# EAGLE library part ARDUINO_MICRO (library HankLibraries)
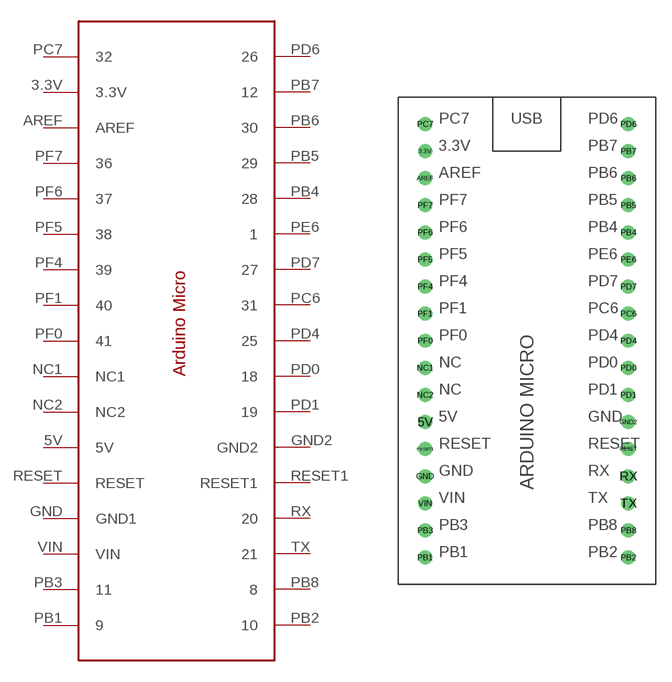
[diagram p4: symbol with the pads of ARDUINOMICRO_FOOTPRINT; footprint ARDUINOMICRO_FOOTPRINT]

Designator prefix -

## ARDUINO_MICRO  [ARDUINOMICRO_FOOTPRINT]
3.3V  3.3V
5V  5V
AREF  AREF
GND  GND1
GND2  GND2
NC1  NC1
NC2  NC2
PB1  9
PB2  10
PB3  11
PB4  28
PB5  29
PB6  30
PB7  12
PB8  8
PC6  31
PC7  32
PD0  18
PD1  19
PD4  25
PD6  26
PD7  27
PE6  1
PF0  41
PF1  40
PF4  39
PF5  38
PF6  37
PF7  36
RESET  RESET
RESET1  RESET1
RX  20
TX  21
VIN  VIN

## Footprint ARDUINOMICRO_FOOTPRINT (pad centres in mm)
drill 0.8: 3.3V -8.89,11.43; 5V -8.89,-13.97; AREF -8.89,8.89; GND -8.89,-19.05; GND2 10.16,-13.97; NC1 -8.89,-8.89; NC2 -8.89,-11.43; PB1 -8.89,-26.67; PB2 10.16,-26.67; PB3 -8.89,-24.13; PB4 10.16,3.81; PB5 10.16,6.35; PB6 10.16,8.89; PB7 10.16,11.43; PB8 10.16,-24.13; PC6 10.16,-3.81; PC7 -8.89,13.97; PD0 10.16,-8.89; PD1 10.16,-11.43; PD4 10.16,-6.35; PD6 10.16,13.97; PD7 10.16,-1.27; PE6 10.16,1.27; PF0 -8.89,-6.35; PF1 -8.89,-3.81; PF4 -8.89,-1.27; PF5 -8.89,1.27; PF6 -8.89,3.81; PF7 -8.89,6.35; RESET 10.16,-16.51; RESET1 -8.89,-16.51; RX 10.16,-19.05; TX 10.16,-21.59; VIN -8.89,-21.59